# EAGLE library part BMP180 (library wicked-device)
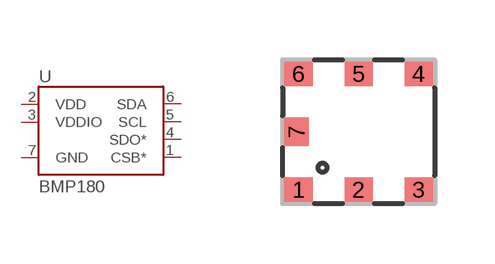
[diagram p24: symbol with the pads of BMP180; footprint BMP180]

Designator prefix -

## BMP180  [BMP180]
1  CSB*  in
2  VDD  pwr
3  VDDIO  pwr
4  SDO*  out
5  SCL
6  SDA
7  GND  pwr

## Footprint BMP180 (pad centres in mm)
smd 0.7 x 0.6: 1 -1.5,-1.45; 2 0,-1.45; 3 1.5,-1.45; 4 1.5,1.45; 5 0,1.45; 6 -1.5,1.45
smd 0.6 x 0.7: 7 -1.55,0